# Altium footprint library 2.05-DFN-WSOF封装.PcbLib: 18 footprints (part 2 of 2)
Each footprint in its own frame and in the unit in brackets; x right, y up, seen from the top. Pads: shape width x height; smd on the part's side, far side on the other; paste and mask are expansions set on the pad; w line width, h text height; cw(c..) or ccw(c..) is an arc to the next point about the centre after c.
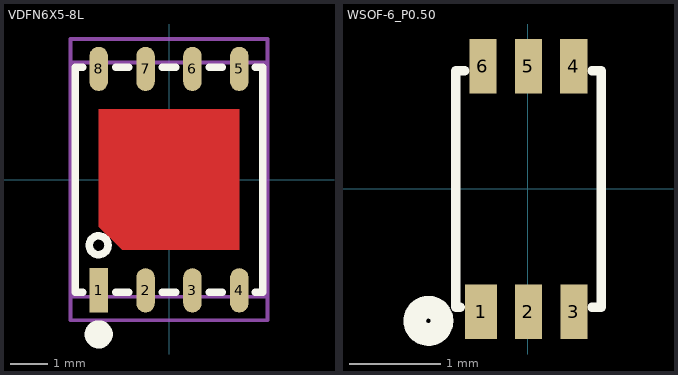
[diagram p1: the footprints below, top view; thin cyan lines are the x and y axes]

## VDFN6X5-8L [mm] "6mm*5mm*1.27mm(长*宽*脚距)          淘宝ID:黄晶宝石"
pads (8):
  rect 0.5x1.2 smd: 1(-1.905,-3)
  oval 0.5x1.2 smd: 2(-0.635,-3) 3(0.635,-3) 4(1.905,-3) 5(1.905,3) 6(0.635,3) 7(-0.635,3) 8(-1.905,3)
Top Layer:
  region: 1.905,-1.905 -1.27,-1.905 -1.905,-1.27 -1.905,1.905 1.905,1.905
Top Overlay:
  circle w0.508: c-1.905,-4.191 r0.127
  circle w0.203: c-1.905,-1.778 r0.255
  lines w0.203: -2.337,-3.048 -2.54,-3.048 -2.54,3.048 -2.337,3.048 ; -1.448,-3.048 -1.092,-3.048 ; -1.448,3.048 -1.092,3.048 ; -0.178,-3.048 0.178,-3.048 ; -0.178,3.048 0.178,3.048 ; 1.092,-3.048 1.448,-3.048 ; 1.092,3.048 1.448,3.048 ; 2.337,-3.048 2.54,-3.048 2.54,3.048 2.337,3.048
Top Solder:
  region: 1.905,-1.905 -1.27,-1.905 -1.905,-1.27 -1.905,1.905 1.905,1.905
Mechanical 13:
  lines w0.1: -2.667,-3.175 -2.667,3.175 2.667,3.175 2.667,1.905 2.667,-3.175 -2.667,-3.175
Mechanical 15:
  circle w0.05: c0,0 r0.35
  lines w0.05: -0.5,0 0.5,0 ; 0,-0.5 0,0.5
  lines w0.1: -2.667,-3.81 -2.667,3.81 2.667,3.81 2.667,-3.81 -2.667,-3.81
3D body: height 1.06, standoff 0.03, extent -2.5,-3.05 2.5,3.05

## WSOF-6_P0.50 [mm] "封装库来自淘宝卖家 ID：黄晶宝石"
pads (6):
  rect 0.351x0.599 smd: 1(-0.511,-1.35)
  rect 0.3x0.6 smd: 2(0.01,-1.35) 3(0.511,-1.35)
  rect 0.3x0.599 smd: 4(0.51,1.35) 5(0.01,1.35) 6(-0.49,1.35)
Top Overlay:
  circle w0.25: c-1.09,-1.45 r0.15
  lines w0.102: -0.74,-1.3 -0.79,-1.3 -0.79,1.3 -0.69,1.3 ; 0.71,-1.3 0.81,-1.3 0.81,1.3 0.71,1.3
3D body: height 0.51, standoff 0.13, extent -0.825,-1.27 0.826,1.27